# Altium footprint library Gastroscopy-Controller.PcbLib: 28 footprints (part 2 of 2)
Each footprint in its own frame and in the unit in brackets; x right, y up, seen from the top. Pads: shape width x height; smd on the part's side, far side on the other; paste and mask are expansions set on the pad; w line width, h text height; cw(c..) or ccw(c..) is an arc to the next point about the centre after c.
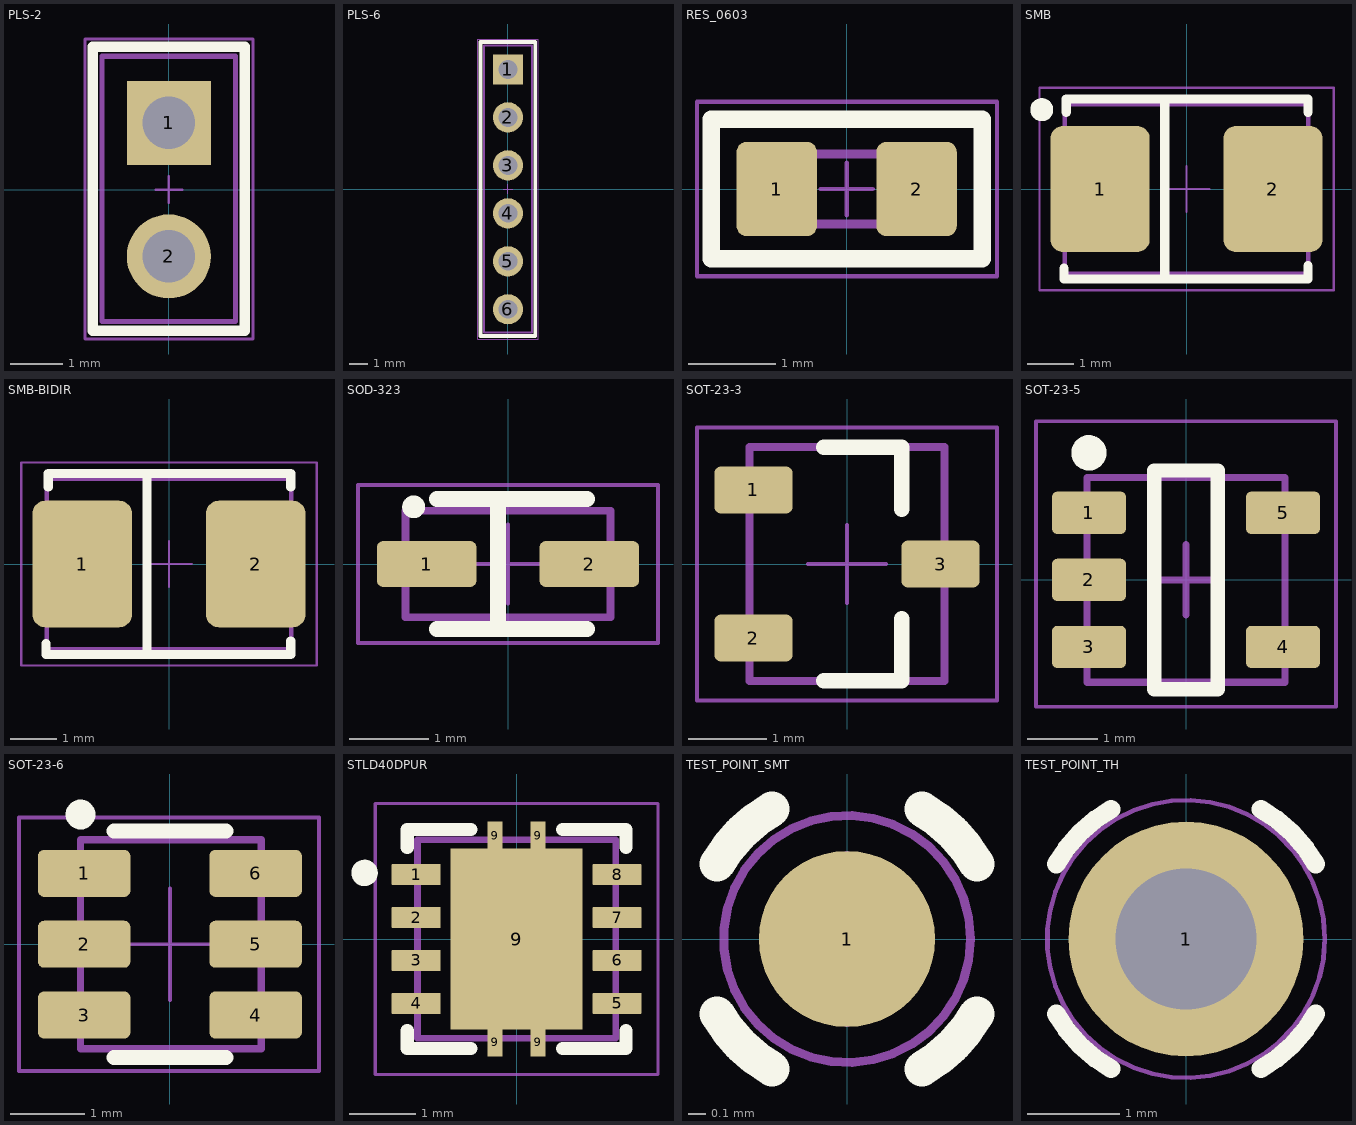
[diagram p1: the footprints below, top view; thin cyan lines are the x and y axes]

## PLS-2 [mm] "CONN HEADER 2 POS 2.54"
height 8.54
pads (2):
  rect 1.6x1.6 hole 1: 1(0,1.27)
  round 1.6 hole 1: 2(0,-1.27)
Top Overlay:
  lines w0.2: -1.447,-2.683 -1.447,2.719 1.447,2.719 1.447,-2.683 -1.447,-2.683
Mechanical 13:
  lines w0.1: -1.27,-2.51 1.27,-2.51 1.27,2.54 -1.27,2.54 -1.27,-2.51
Mechanical 15:
  lines w0.05: -0.25,0 0.25,0 ; 0,-0.25 0,0.25 ; -1.594,-2.842 -1.594,2.867 1.6,2.867 1.6,-2.842 -1.594,-2.842
3D body "User Library-Header1x2.STEP": height 8.46, standoff -2.52, extent -1.27,-2.525 1.27,2.555

## PLS-6 [mm] "CONN HEADER VERT 6POS 2.54MM"
height 8.54
pads (6):
  rect 1.6x1.6 hole 1: 1(0,6.338)
  round 1.6 hole 1: 2(0,3.798) 3(0,1.258) 4(0,-1.282) 5(0,-3.822) 6(0,-6.362)
Top Overlay:
  lines w0.2: -1.454,-7.779 1.451,-7.779 1.451,7.794 -1.454,7.794 -1.454,-7.779
Mechanical 13:
  lines w0.1: -1.27,-7.602 -1.27,7.608 1.27,7.608 1.27,-7.602 -1.27,-7.602
Mechanical 15:
  lines w0.05: -1.422,2.403 -1.421,2.402 ; -0.25,0 0.25,0 ; 0,-0.25 0,0.25 ; -1.6,-7.937 1.606,-7.937 1.606,7.946 -1.6,7.946 -1.6,-7.937
3D body "61300611121_Download_STP_61300611121_rev1.stp": height 8.55, standoff -2.99, extent -1.264,-7.638 1.276,7.602

## RES_0603 [mm] "Generic 0603 resistor, IPC"
height 0.55
pads (2):
  rrect25% 0.92x1.08 smd: 1(-0.8,0) 2(0.8,0)
Top Overlay:
  lines w0.2: -1.55,-0.8 -1.55,0.8 1.55,0.8 1.55,-0.8 -1.55,-0.8
Mechanical 9:
  text ".Designator" at -4.5,2 h3.5
Mechanical 10:
  text ".Comment" at -2.95,-2.5 h2
Mechanical 13:
  lines w0.1: -0.8,-0.4 -0.8,0.4 0.8,0.4 0.8,-0.4 -0.8,-0.4
Mechanical 15:
  lines w0.05: -0.3,0 0.3,0 ; 0,-0.3 0,0.3 ; -1.713,-1 1.72,-1 1.72,1 -1.713,1 -1.713,-1
3D body "RESC1608.STEP": height 0.5, standoff 0, extent -0.8,-0.4 0.8,0.4

## SMB [mm] "Molded Diode, 2-Leads, Body 4.6x2.9mm, IPC"
height 2.4
pads (2):
  rrect25% 2.159x2.743 smd: 1(-1.88,0) 2(1.88,0)
Top Overlay:
  circle w0.25: c-3.15,1.725 r0.125
  lines w0.2: -2.665,-1.725 -2.665,-1.96 2.64,-1.96 2.64,-1.67 ; -2.615,1.67 -2.615,1.96 2.64,1.96 2.64,1.67 ; -0.475,-1.925 -0.475,1.95
Mechanical 9:
  text ".Designator" at -5,3 h3.5
Mechanical 10:
  text ".Comment" at -3,-3.5 h2
Mechanical 13:
  lines w0.1: -2.65,-1.85 -2.65,1.85 2.65,1.85 2.65,-1.85 -2.65,-1.85
Mechanical 15:
  lines w0.05: -0.5,0 0.5,0 ; 0,-0.5 0,0.5 ; -3.2,-2.2 3.2,-2.2 3.2,2.2 -3.2,2.2 -3.2,-2.2
3D body "User Library-DO-214AA_SMB.step": height 2.24, standoff -0.01, extent -2.65,-1.85 2.65,1.85

## SMB-BIDIR [mm] "Molded Diode, 2-Leads, Body 4.6x2.9mm, IPC"
height 2.4
pads (2):
  rrect25% 2.159x2.743 smd: 1(-1.88,0) 2(1.88,0)
Top Overlay:
  lines w0.2: -2.665,-1.725 -2.665,-1.96 2.64,-1.96 2.64,-1.67 ; -2.615,1.67 -2.615,1.96 2.64,1.96 2.64,1.67 ; -0.475,-1.925 -0.475,1.95
Mechanical 9:
  text ".Designator" at -5,3 h3.5
Mechanical 10:
  text ".Comment" at -3,-3.5 h2
Mechanical 13:
  lines w0.1: -2.65,-1.85 2.65,-1.85 2.65,1.85 -2.65,1.85 -2.65,-1.85
Mechanical 15:
  lines w0.05: -0.5,0 0.5,0 ; 0,-0.5 0,0.5 ; -3.2,-2.2 -3.2,2.2 3.2,2.2 3.2,-2.2 -3.2,-2.2
3D body "User Library-DO-214AA_SMB.step": height 2.24, standoff -0.01, extent -2.65,-1.85 2.65,1.85

## SOD-323 [mm]
height 0.7
pads (2):
  rrect25% 1.26x0.58 smd: 1(-1.03,0) 2(1.03,0)
Top Overlay:
  lines w0.15: -1.125,0.725 cw(c-1.195,0.725) -1.125,0.732
  lines w0.2: -0.9,-0.825 1,-0.825 ; -0.9,0.825 1,0.825 ; -0.125,-0.8 -0.125,0.825
Mechanical 13:
  lines w0.1: -1.3,-0.675 -1.3,0.675 1.3,0.675 1.3,-0.675 -1.3,-0.675
Mechanical 15:
  lines w0.05: -0.5,0 0.5,0 ; 0,-0.5 0,0.5 ; -1.9,-1 -1.9,1 1.9,1 1.9,-1 -1.9,-1
3D body "User Library-SOD323-1.step": height 1.1, standoff 0, extent -1.3,-0.675 1.3,0.675

## SOT-23-3 [mm] "SOT23, 3-Leads, IPC"
height 1.2
pads (3):
  rrect25% 1x0.6 smd: 1(-1.2,0.95) 2(-1.2,-0.95) 3(1.2,0)
Top Overlay:
  lines w0.2: -0.3,-1.5 0.7,-1.5 0.7,-0.7 ; -0.3,1.5 0.7,1.5 0.7,0.7
Mechanical 13:
  lines w0.1: -1.25,-1.5 1.25,-1.5 1.25,1.5 -1.25,1.5 -1.25,-1.5
Mechanical 15:
  lines w0.05: -0.5,0 0.5,0 ; 0,-0.5 0,0.5 ; -1.925,-1.75 1.925,-1.75 1.925,1.75 -1.925,1.75 -1.925,-1.75
3D body "SOT-23-3.step": height 1.1, standoff 0, extent -1.25,-1.5 1.25,1.5

## SOT-23-5 [mm] "SOT23, 5-Leads, IPC"
height 1.4
pads (5):
  rrect25% 1.05x0.6 smd: 1(-1.375,0.95) 2(-1.375,0) 3(-1.375,-0.95) 4(1.375,-0.95) 5(1.375,0.95)
Top Overlay:
  circle w0.25: c-1.375,1.8 r0.125
  lines w0.2: -0.45,-1.55 0.45,-1.55 0.45,1.55 -0.45,1.55 -0.45,-1.55
Mechanical 13:
  lines w0.1: -1.4,-1.45 -1.4,1.45 1.4,1.45 1.4,-1.45 -1.4,-1.45
Mechanical 15:
  lines w0.05: -2.125,-1.8 -2.125,2.25 2.125,2.25 2.125,-1.8 -2.125,-1.8
  lines w0.1: -0.5,0 0.5,0 ; 0,-0.5 0,0.5
3D body "SOT23-5-2.step": height 1.45, standoff 0, extent -1.4,-1.45 1.4,1.45

## SOT-23-6 [mm]
height 1.12
pads (6):
  rrect25% 1.24x0.63 smd: 1(-1.15,0.95) 2(-1.15,0) 3(-1.15,-0.95) 4(1.15,-0.95) 5(1.15,0) 6(1.15,0.95)
Top Overlay:
  circle w0.2: c-1.2,1.74 r0.1
  lines w0.2: -0.75,-1.52 0.75,-1.52 ; -0.75,1.52 0.75,1.52
Mechanical 13:
  lines w0.1: -1.2,-1.4 1.225,-1.4 1.225,1.4 -1.2,1.4 -1.2,-1.4
Mechanical 15:
  lines w0.05: -0.75,0 0.75,0 ; 0,-0.75 0,0.75 ; -2.025,-1.7 2,-1.7 2,1.7 -2.025,1.7 -2.025,-1.7
3D body "SW3dPS-SOT-23-6.STEP": height 1.09, standoff 0, extent -1.201,-1.397 1.225,1.397

## STLD40DPUR [mm]
height 1.75
pads (13):
  rrect8% 0.74x0.32 smd: 1(-1.52,0.975) 2(-1.52,0.325) 3(-1.52,-0.325) 4(-1.52,-0.975) 5(1.52,-0.975) 6(1.52,-0.325) 7(1.52,0.325) 8(1.52,0.975)
  rect 0.23x0.43 smd: 9(-0.325,-1.56) 9(-0.325,1.56) 9(0.325,-1.56) 9(0.325,1.56)
  rect 2x2.74 smd paste-2: 9(0,0)
Top Overlay:
  circle w0.2: c-2.3,1 r0.1
  lines w0.2: -1.655,-1.385 -1.655,-1.655 -0.695,-1.655 ; -1.655,1.385 -1.655,1.655 -0.695,1.655 ; 0.695,-1.655 1.655,-1.655 1.655,-1.385 ; 0.695,1.655 1.655,1.655 1.655,1.385
Top Paste:
  region: 0.735,-1.106 0.105,-1.106 0.105,-0.105 0.735,-0.105
  region: -0.105,-1.105 -0.735,-1.105 -0.735,-0.105 -0.105,-0.105
  region: 0.735,0.105 0.105,0.105 0.105,1.105 0.735,1.105
  region: -0.105,0.105 -0.735,0.105 -0.735,1.105 -0.105,1.105
Mechanical 13:
  lines w0.1: -1.5,-1.5 1.5,-1.5 1.5,1.5 -1.5,1.5 -1.5,-1.5
Mechanical 15:
  lines w0.05: -0.4,0 0.4,0 ; 0,-0.4 0,0.4 ; -2.14,-2.05 -2.14,-1.39 -2.14,1.39 -2.14,2.05 2.14,2.05 2.14,1.39 2.14,-1.39 2.14,-2.05 -2.14,-2.05
3D body "TPS61042DRBT.STEP": height 1, standoff 0, extent -1.5,-1.5 1.5,1.5

## TEST_POINT_SMT [mm] "SMT test point, 40 mil pad"
pads (1):
  round 1 smd paste-2539.97: 1(0,0)
Top Overlay:
  lines w0.2: -0.736,-0.425 ccw(c0,0) -0.425,-0.736 ; -0.736,0.425 cw(c0,0) -0.425,0.736 ; 0.425,-0.736 ccw(c0,0) 0.736,-0.425 ; 0.425,0.736 cw(c0,0) 0.736,0.425
Mechanical 15:
  circle w0.05: c0,0 r0.7
  lines w0.05: -0.475,0 0.475,0 ; 0,-0.475 0,0.475

## TEST_POINT_TH [mil] "TH test point, 100 mil pad, 60 mil hole"
pads (1):
  round 100 hole 60: 1(0,0)
Top Overlay:
  lines w7.87: -55.23,-31.89 ccw(c0,0) -31.89,-55.23 ; -55.23,31.89 cw(c0,0) -31.89,55.23 ; 31.89,-55.23 ccw(c0,0) 55.23,-31.89 ; 31.89,55.23 cw(c0,0) 55.23,31.89
Mechanical 15:
  circle w1.97: c0,0 r59.06
  lines w1.97: -18.7,0 18.7,0 ; 0,-18.7 0,18.7